# EAGLE library part CHIPCAP2 (library BaseApp)
Digikey No :- __235-1344-ND__
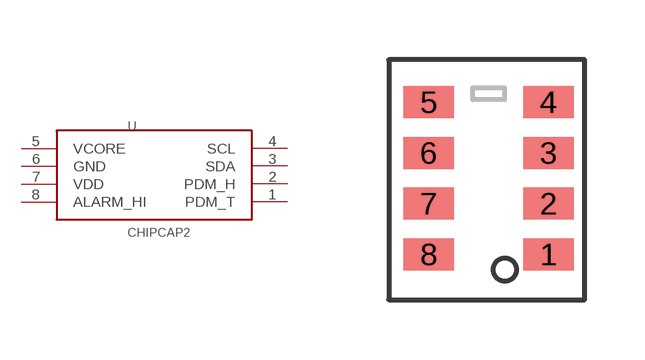
[diagram p95: symbol with the pads of CHIPCAP2; footprint CHIPCAP2]

Designator prefix -

## CHIPCAP2  [CHIPCAP2]
1  PDM_T
2  PDM_H
3  SDA
4  SCL
5  VCORE
6  GND
7  VDD
8  ALARM_HI

## Footprint CHIPCAP2 (pad centres in mm)
smd 1.27 x 0.8: 1 1.603,-1.651; 2 1.603,-0.381; 3 1.603,0.889; 4 1.603,2.159; 5 -1.397,2.159; 6 -1.397,0.889; 7 -1.397,-0.381; 8 -1.397,-1.651